# Altium schematic symbol library OP-07DPS.SchLib: 1 symbol
Pins are listed as number, name and electrical type; pins without a type are passive.

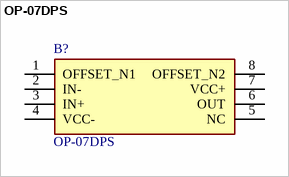
[diagram p0: symbol OP-07DPS]

## OP-07DPS
designator B?
Operational Amplifiers - Op Amps Low-Offset voltage (0.15mV) single operational amplifier 8-SO 0 to 70; Manufacturer_Name: Texas Instruments; Geometry.Height: 2mm; Mouser Part Number: 595-OP-07DPS; Mouser Price/Stock: https://www.mouser.co.uk/ProductDetail/Texas-Instruments/OP-07DPS?qs=byeeYqUIh0NQesBCD7yHvw%3D%3D; Manufacturer_Part_Number: OP-07DPS; Datasheet Link: https://www.ti.com/lit/ds/symlink/op07c.pdf?HQS=dis-dk-null-digikeymode-dsf-pf-null-wwe&ts=1640609008089&ref_url=http%253A%252F%252Fcomponentsearchengine.com%252F
footprint SOIC127P780X200-8N
pins: 1 OFFSET_N1, 2 IN-, 3 IN+, 4 VCC-, 5 NC, 6 OUT, 7 VCC+, 8 OFFSET_N2